# EAGLE library part LM2623AMM (library Ava)
DC/DC Converter
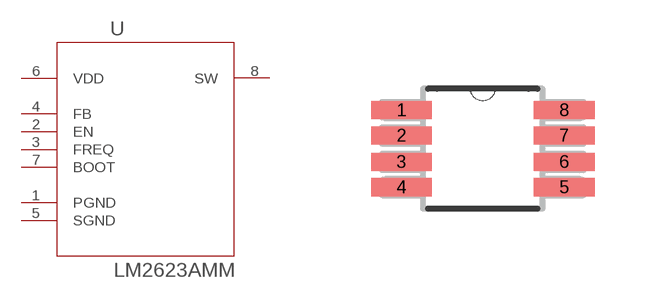
[diagram p21: symbol with the pads of SOP65P490X110-8N; footprint SOP65P490X110-8N]

Designator prefix U

## LM2623AMM (MPN: LM2623AMM; OC_FARNELL: 8207445; OC_NEWARK: 41K3958; PACKAGE: 8-MSOP; SUPPLIER: National Semiconductors)  [SOP65P490X110-8N]
1  PGND  pas
2  EN  in
3  FREQ  in
4  FB  in
5  SGND  pas
6  VDD  pwr
7  BOOT  in
8  SW  out

## Footprint SOP65P490X110-8N (pad centres in mm)
smd 1.524 x 0.457: 1 -2.032,0.965; 2 -2.032,0.33; 3 -2.032,-0.33; 4 -2.032,-0.965; 5 2.032,-0.965; 6 2.032,-0.33; 7 2.032,0.33; 8 2.032,0.965